# Altium schematic symbol library Main_Board.SchLib: 48 symbols
Pins are listed as number, name and electrical type; pins without a type are passive.

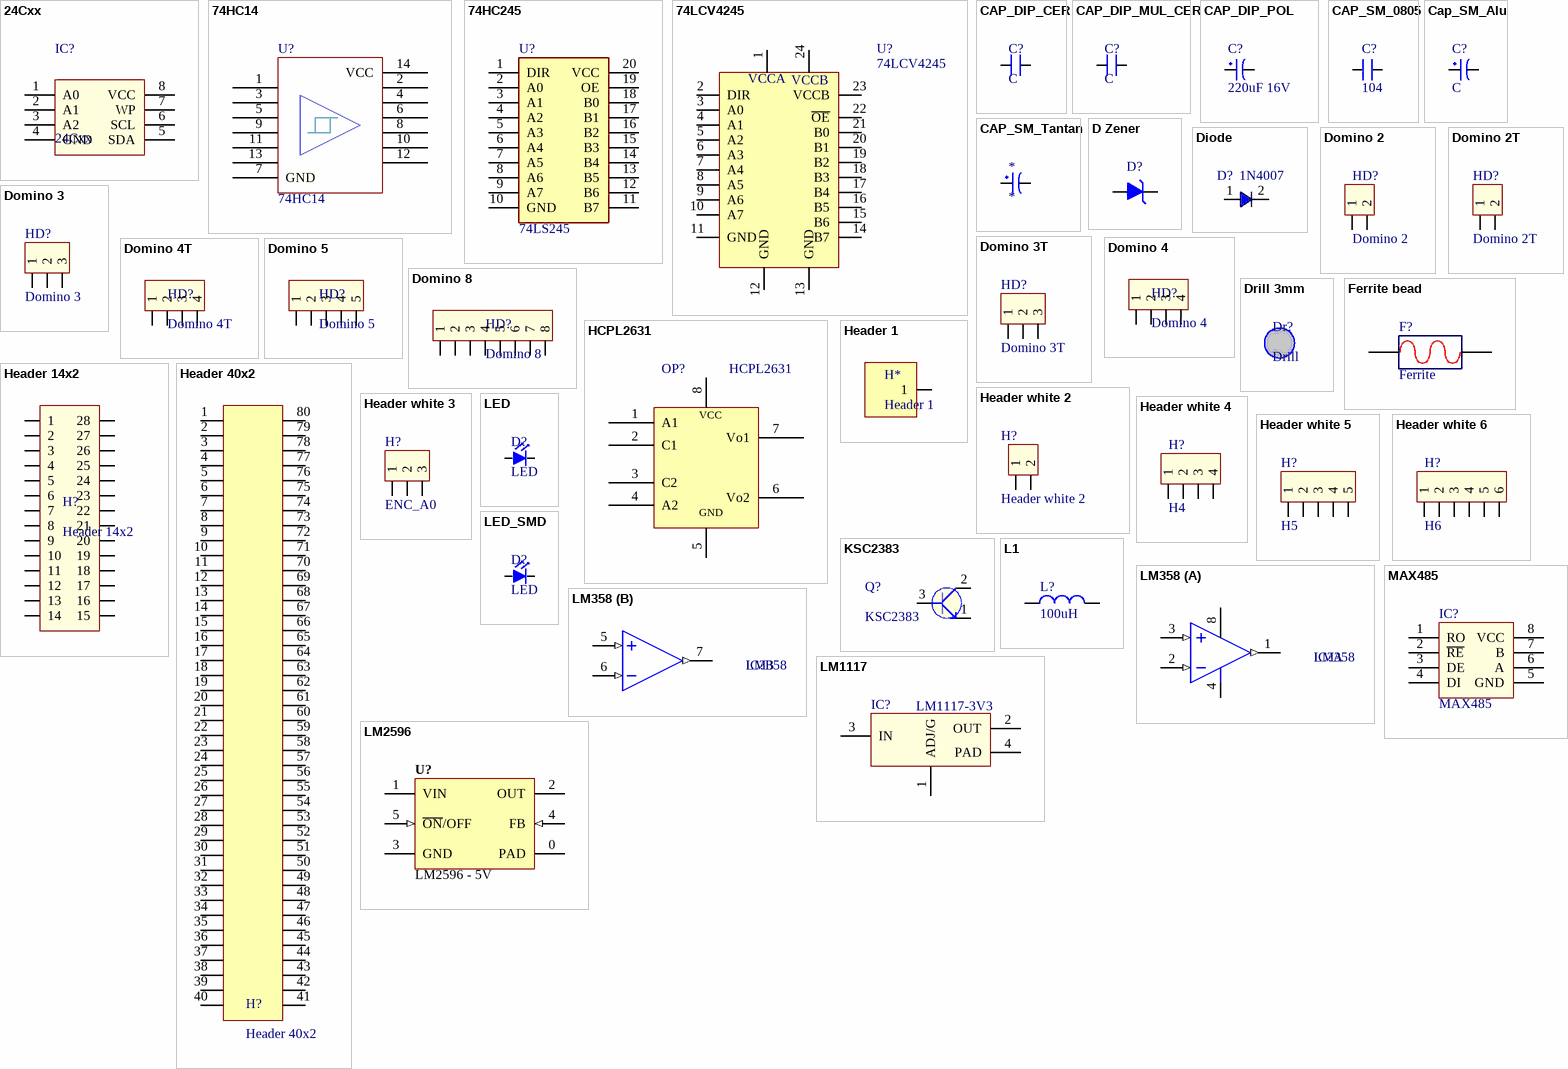
[diagram p0: symbols 24Cxx to MAX485]

## 24Cxx
designator IC?
Standard 2-Wire Bus Interface Serial EEPROM; Value: DIP 8; Value: 24Cxx; Copyright by: VanDungEvn
footprint DIP8/W0.3 (8 PIN, W 300mil, Pin to pin 100mil)
footprint SOIC8
pins: 1 A0, 2 A1, 3 A2, 4 GND (power), 5 SDA, 6 SCL, 7 WP, 8 VCC (power)

## 74HC14
designator U?
Hex Inverters With SCHMITT-TRIGGER Inputs
footprint TSSOP14
footprint SO14-150mil (Small Outline; 14 Leads; Body Width 3.9 mm; Pitch 1.27 mm)
footprint SOIC14
pins: 1, 2, 3, 4, 5, 6, 7 GND, 8 7, 9 8, 10 9, 11 10, 12 11, 13 12, 14 VCC

## 74HC245
designator U?, comment 74LS245
Octal bus tranceiver; Link: http://tme.vn/Product.aspx?id=1404#page=pro_info
footprint soic20 (SOIC, 20-Leads, Body 12.8x7.5mm, Pitch 1.27mm, IPC Low Density)
pins: 1 DIR, 2 A0, 3 A1, 4 A2, 5 A3, 6 A4, 7 A5, 8 A6, 9 A7, 10 GND (power), 11 B7, 12 B6, 13 B5, 14 B4, 15 B3, 16 B2, 17 B1, 18 B0, 19 OE, 20 VCC (power)

## 74LCV4245
designator U?
Octal dual supply translating transceiver; 3-state
footprint SOIC24 - wide (SOIC, 24-Leads, Body 15.4x7.5mm, Pitch 1.27mm, IPC Low Density)
pins: 1 VCC(A), 2 DIR, 3 A0, 4 A1, 5 A2, 6 A3, 7 A4, 8 A5, 9 A6, 10 A7, 11 GND, 12 GND, 13 GND, 14 B7, 15 B6, 16 B5, 17 B4, 18 B3, 19 B2, 20 B1, 21 B0, 22 ~{OE}, 23 VCCB, 24 VCC(B)
text: VCCA

## CAP_DIP_CER
designator C?, comment C
Ceramic Disc Capacitor
footprint CAP_Disc_Cer
pins: 1, 2

## CAP_DIP_MUL_CER
designator C?, comment C
Multilayer Ceramic Capacitor
footprint CAP_Multi_Cer
pins: 1, 2

## CAP_DIP_POL
designator C?, comment 220uF 16V
C 47uF/50V , 220uF/16V; Value: 47uF/16 - 50V; Description 1: 470uF/6,3V - 330uF/10V - 220uF/16V; Description 2: 100uF/25V - 35V - 47uF/50V - 22uF/100V; Description 3: 33uF => 47uF/63V - 1uF => 4,7uF/160V; Description 4: 1uF => 2,2uF/250V - 1uF/350V
footprint CP1/2.5 (Tu hoa 33 >100 uF,50V, 220uF/16V,25V)
pins: 1, 2

## CAP_SM_0805
designator C?, comment 104
Ceramic Capacitor SMD
footprint CAP-SM-0805
pins: 1, 2

## Cap_SM_Alu
designator C?, comment C
SMD Aluminum Electrolytic Capacitor; Size D8: 100uF/35V, 220uF/16V, 330uF/6.3V; Size A: 2.2uF/35V, 3.3uF/35V, 4.7uF/25V; Size D: 47uF/25V, 100uF/16V,; Size C: 33uF/16V; Size B: 1uF/50V, 10uF/16V, 22uF/16V; Size F: 470uF/16V; Size G: 330uF/35V, 680uF/16V, 1000uF/10V
footprint Cap_Alu_A (1uF -> 4.7uF)
footprint Cap_Alu_B (10uF -> 22uF)
footprint Cap_Alu_C (33uF)
footprint Cap_Alu_D (47uF -> 100uF)
footprint Cap_Alu_D8 (100uF -> 220uF)
footprint Cap_Alu_F (470uF)
footprint Cap_Alu_G
pins: 1, 2

## CAP_SM_Tantan
designator *
pins: 1, 2

## D Zener
designator D?  (value not drawn)
Silicon Planar Zener Diodes
footprint Diode zener (Silicon Planar Zener Diodes)
pins: 1 A, 2 K

## Diode
designator D?, comment 1N4007
General Rectifier; Link: http://www.tme.vn/Product.aspx?id=769#page=pro_info
footprint DO-214AB
footprint DIO-0.5A-SMALL (Diode muoi, W 80mil, L 300mil)
pins: 1, 2

## Domino 2
designator HD?
Domino 2 200mil; Value: Domino 2
footprint Domino 2 (Domino 2, 2 pin, hight 300mil, Pin to Pin 200, Colour Green)
pins: 1, 2

## Domino 2T
designator HD?
Domino 2T 200mil; Value: Domino 2T
footprint Domino 2T (Domino 2T, 2 pin, hight 300mil, Pin to Pin 200, Colour Green)
pins: 1, 2

## Domino 3
designator HD?
Domino 3 200mil; Value: Domino 3
footprint Domino 3 (Domino 3, 3 pin, height 300mil, Pin to Pin 200, Colour Green)
pins: 1, 2, 3

## Domino 3T
designator HD?
Domino 3T 200mil; Value: Domino 3T
footprint Domino 3T (Domino 3T, 3 pin, hight 300mil, Pin to Pin 200, Colour Green)
pins: 1, 2, 3

## Domino 4
designator HD?
Domino 4 200mil; Value: Domino 4
footprint Domino 4 (Domino 4, 4 pin, height 300mil, Pin to Pin 200, Colour Green)
pins: 1, 2, 3, 4

## Domino 4T
designator HD?
Domino 4T 200mil; Value: Domino 4T
footprint Domino 4T (Domino 4T, 4 pin, hight 300mil, Pin to Pin 200, Colour Green)
pins: 1, 2, 3, 4

## Domino 5
designator HD?
Domino 5 200mil; Value: Domino 5
footprint Domino 5 (Domino 5, 5pin, hight 300mil, Pin to Pin 200, Colour Green)
pins: 1, 2, 3, 4, 5

## Domino 8
designator HD?
Domino 8 200mil; Value: Domino 8
footprint Domino 8 (Domino 8, 8 pin, height 300mil, Pin to Pin 200, Colour Green)
pins: 1, 2, 3, 4, 5, 6, 7, 8

## Drill 3mm
designator Dr?, comment Drill
Drill 3mm
footprint Drill 3mm

## Ferrite bead
designator F?, comment Ferrite
Ferrite bead
footprint Ferrite (Ferrite Bead RH3.5x6x0.8)
pins: 1, 2

## HCPL2631
designator OP?
High CMR, High Speed TTL Compatible Optocouplers
footprint 6N137SMD (8 PIN, W 400mil, Pin to pin 100mil)
pins: 1 A1, 2 C1, 3 C2, 4 A2, 5 GND, 6 Vo2, 7 Vo1, 8 VCC

## Header 1
designator H*
footprint Header1 (HDR1)
pins: ?1 1

## Header 14x2
designator H?
Header Black 14x2 pin
footprint Header 14x2 (Header Black Female 14x2 pin)
pins: 1, 2, 3, 4, 5, 6, 7, 8, 9, 10, 11, 12, 13, 14, 15, 16, 17, 18, 19, 20, 21, 22, 23, 24, 25, 26, 27, 28

## Header 40x2
designator H?
CONECTOR BLACK 40X2 PIN
pins: 1, 2, 3, 4, 5, 6, 7, 8, 9, 10, 11, 12, 13, 14, 15, 16, 17, 18, 19, 20, 21, 22, 23, 24, 25, 26, 27, 28, 29, 30, 31, 32, 33, 34, 35, 36, 37, 38, 39, 40, 41, 42, 43, 44, 45, 46, 47, 48, 49, 50, 51, 52, 53, 54, 55, 56, 57, 58, 59, 60, 61, 62, 63, 64, 65, 66, 67, 68, 69, 70, 71, 72, 73, 74, 75, 76, 77, 78, 79, 80

## Header white 2
designator H?
Value: Header white 2
footprint Header White 2 (JST Connector)
pins: 1, 2

## Header white 3
designator H?, comment ENC_A0
Connector 3; Value: Connector 3
footprint Header White 3 (JST Connector)
pins: 1, 2, 3

## Header white 4
designator H?, comment H4
Header white 4; Value: Header white 4
footprint Header White 4 (JST Connector)
pins: 1, 2, 3, 4

## Header white 5
designator H?, comment H5
Header white 5; Value: Header white 5
footprint Header White 5 (Footprint not found)
pins: 1, 2, 3, 4, 5

## Header white 6
designator H?, comment H6
Header white 6; Value: Header white 6
footprint Header White 6 (JST Connector)
pins: 1, 2, 3, 4, 5, 6

## KSC2383
designator Q?
Bipolar Small Signal NPN Epitaxial Transistor
footprint To-92a (TO-92)
pins: 1 E, 2 E, 3 E

## L1
designator L?, comment 100uH
Inductor; Value: 150 mH
footprint INDUCTOR_SMD (100uH/3A SMD 12x12x8mm inductor)
pins: 1, 2

## LED
designator D?
footprint LED-3 (LED 2 PIN, 3ly Only colour)
footprint LED-5-Blue (LED 2 PIN, 5 ly , Only colour, pin to pin 110mil)
footprint LED-5-Red (LED 2 PIN, 5 ly , Only colour,pin to pin 100mil)
footprint LED-5-White (LED 2 PIN, 5 ly , Only colour, pin to pin 110mil)
footprint LED-5-Green (LED 2 PIN, 5 ly , Only colour,pin to pin 100mil)
footprint LED-5-Yellow (LED 2 PIN, 5 ly , Only colour,pin to pin 100mil)
pins: 1 A, 2 K

## LED_SMD
designator D?, comment LED
LED SMD
footprint LED_0805_Blue (Chip LED, 2-Leads, Body 2.0x1.3mm, IPC Medium Density)
footprint LED_0805_Green (Chip LED, 2-Leads, Body 2.0x1.3mm, IPC Medium Density)
footprint LED_0805_Red (Chip LED, 2-Leads, Body 2.0x1.3mm, IPC Medium Density)
footprint LED_0805_White (Chip LED, 2-Leads, Body 2.0x1.3mm, IPC Medium Density)
footprint LED_0805_Orange (Chip LED, 2-Leads, Body 2.0x1.3mm, IPC Medium Density)
pins: 1 A, 2 K

## LM358
designator IC?
Low-Power Dual Operational Amplifier; Value: LM358
footprint DIP8/W0.3 (8 PIN, W 300mil, Pin to pin 100mil)
footprint SO8-200mil (8-Pin Plastic Medium Body Small Outline Package 1.27 mm Pitch, IPC Low Density)
part A pins: 1 OUT (out), 2 IN- (in), 3 IN+ (in), 4 -V, 8 +V
part B pins: 5 IN+ (in), 6 IN- (in), 7 OUT (out)

## LM1117
designator IC?, comment LM1117-3V3
Available in 1.8V, 2.5V, 2.85V, 3.3V, 5V, and  Adjustable Versions; Value: LM317
footprint SOT223-4N (SOT223, 4-Leads, Body 6.5x3.5mm, Pitch 2.3mm, Lead Span 7mm, IPC Medium Density)
pins: 1 ADJ/G, 2 OUT, 3 IN, 4 PAD

## LM2596
designator U?, comment LM2596 - 5V
SIMPLE SWITCHER® Power Converter 150-kHz - 3A Step-Down Voltage Regulator; Max Input Voltage: 12 V; Max Output Current: 3 (6.0 peak) A; Max Output Voltage: mV; Category: IC-Power; Min Input Voltage: mV; Min Output Voltage: mV; Mounting Technology: Surface Mount; Status: Unreleased; Supply Voltage: mV; Temperature Range: -40 to +125 degC
footprint TO263
pins: 0 PAD, 1 VIN (power), 2 OUT (power), 3 GND (power), 4 FB (in), 5 ~{ON}/OFF (in)

## MAX485
designator IC?
RS232 - RS485 (Same sn75176)
footprint DIP8/W0.3 (8 PIN, W 300mil, Pin to pin 100mil)
footprint SOIC8
pins: 1 RO "Receiver Output", 2 ~{RE} "Receiver Enable Output", 3 DE "Driver Enable Output", 4 DI "Driver Input", 5 GND, 6 A "RI & NoneDO", 7 B "NoneDI", 8 VCC

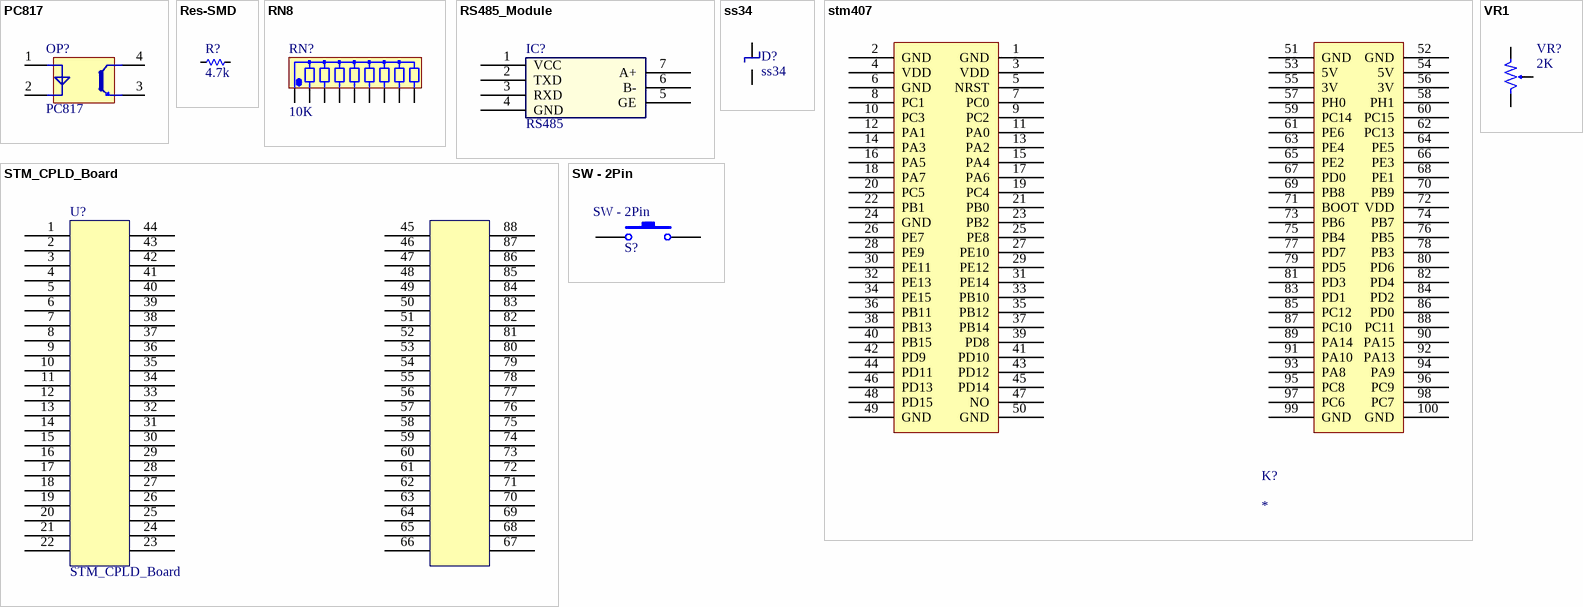
[diagram p1: symbols PC817 to VR1]

## PC817
designator OP?
OPTO
footprint SOP4 2.54
footprint DIP4/W0.3 (4 PIN, W 300mil, Pin to pin 100mil)
pins: 1 A, 2 C, 3 C "COLLECTOR", 4 E "EMITTER"

## Res-SMD
designator R?, comment 4.7k
Resistor; Manufacturer: Generic Components; Class: Passive; Published: 08/06/2000; Publisher: Altium Hobart Technology Centre
footprint RES-SM-0805
pins: 1, 2

## RN8
designator RN?, comment 10K
Resistor 8 (Thanh); Value: Tro thanh 10K
footprint RN8 (R SIP8, 9 Pin)
pins: 1, 2, 3, 4, 5, 6, 7, 8, 9

## RS485_Module
designator IC?, comment RS485
Module RS485
footprint RS485_Module (Module RS485 Batfun)
pins: 1 VCC, 2 TXD, 3 RXD, 4 GND, 5 GE, 6 B-, 7 A+

## ss34
designator D?
Surface Mount Schottky Barrier Rectifier
footprint DO-214AB
pins: 1 a, 2 B

## stm407
designator K?
footprint Sheild_STM32F407 (STM32F Discovery)
pins: 1 GND, 2 GND, 3 VDD, 4 VDD, 5 NRST, 6 GND, 7 PC0, 8 PC1, 9 PC2, 10 PC3, 11 PA0, 12 PA1, 13 PA2, 14 PA3, 15 PA4, 16 PA5, 17 PA6, 18 PA7, 19 PC4, 20 PC5, 21 PB0, 22 PB1, 23 PB2, 24 GND, 25 PE8, 26 PE7, 27 PE10, 28 PE9, 29 PE12, 30 PE11, 31 PE14, 32 PE13, 33 PB10, 34 PE15, 35 PB12, 36 PB11, 37 PB14, 38 PB13, 39 PD8, 40 PB15, 41 PD10, 42 PD9, 43 PD12, 44 PD11, 45 PD14, 46 PD13, 47 NO, 48 PD15, 49 GND, 50 GND, 51 GND, 52 GND, 53 5V, 54 5V, 55 3V, 56 3V, 57 PH0, 58 PH1, 59 PC14, 60 PC15, 61 PE6, 62 PC13, 63 PE4, 64 PE5, 65 PE2, 66 PE3, 67 PD0, 68 PE1, 69 PB8, 70 PB9, 71 BOOT, 72 VDD, 73 PB6, 74 PB7, 75 PB4, 76 PB5, 77 PD7, 78 PB3, 79 PD5, 80 PD6, 81 PD3, 82 PD4, 83 PD1, 84 PD2, 85 PC12, 86 PD0, 87 PC10, 88 PC11, 89 PA14, 90 PA15, 91 PA10, 92 PA13, 93 PA8, 94 PA9, 95 PC8, 96 PC9, 97 PC6, 98 PC7, 99 GND, 100 GND

## STM_CPLD_Board
designator U?
STM32f4 and Max2 570 on one board
footprint STM_CPLD_Board (Stm32f4 and Max2 520 on one board)
pins: 1, 2, 3, 4, 5, 6, 7, 8, 9, 10, 11, 12, 13, 14, 15, 16, 17, 18, 19, 20, 21, 22, 23, 24, 25, 26, 27, 28, 29, 30, 31, 32, 33, 34, 35, 36, 37, 38, 39, 40, 41, 42, 43, 44, 45, 46, 47, 48, 49, 50, 51, 52, 53, 54, 55, 56, 57, 58, 59, 60, 61, 62, 63, 64, 65, 66, 67, 68, 69, 70, 71, 72, 73, 74, 75, 76, 77, 78, 79, 80, 81, 82, 83, 84, 85, 86, 87, 88

## SW - 2Pin
designator S?
Switch button 2 pin
footprint SW2 (SW button 2pin, 250x 250 mil)
pins: 1, 2

## VR1
designator VR?, comment 2K
Var Resistor; Value: VR 10K
footprint VR1 (Variable Resistor)
pins: 1, 2, 3